# Altium schematic symbol library telecontrolli.SCHLIB: 3 symbols
Pins are listed as number, name and electrical type; pins without a type are passive.

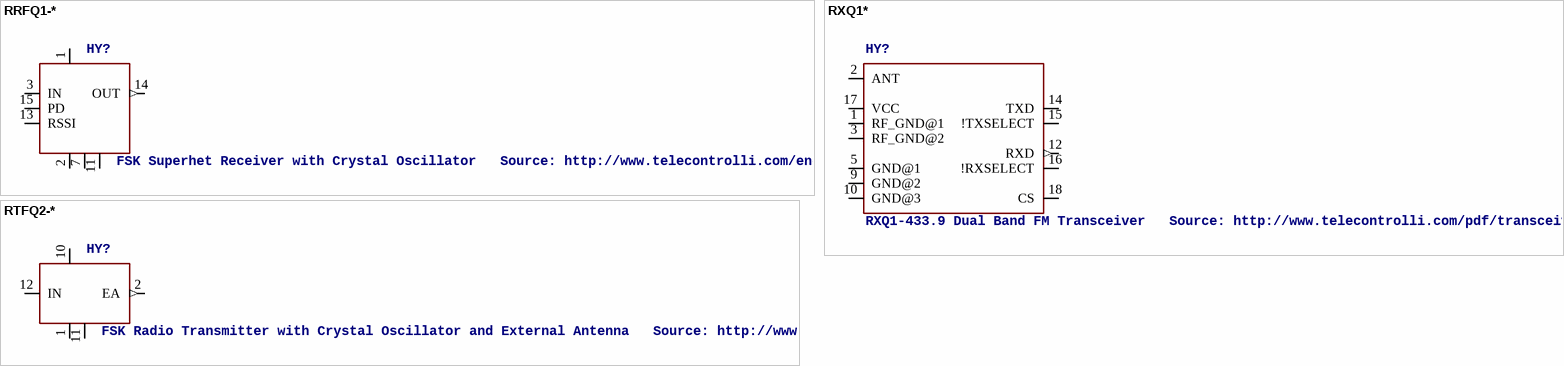
[diagram p0: symbols RRFQ1-* to RXQ1*]

## RRFQ1-*
designator HY?, comment FSK Superhet Receiver with Crystal Oscillator   Source: http://www.telecontrolli.com/eng/default-wproducts.html ... rrfq1.pdf
MPN: FM-RRFQ1-868; OC_FARNELL: 1201003; OC_NEWARK: 01M7854
footprint RRFQ1
pins: 1 +5V (power), 2 GND (power), 3 IN, 7 GND@1 (power), 11 GND@2 (power), 13 RSSI, 14 OUT (out), 15 PD

## RTFQ2-*
designator HY?, comment FSK Radio Transmitter with Crystal Oscillator and External Antenna   Source: http://www.telecontrolli.com/eng/default-wproducts.html ... rtfq2.pdf
MPN: FM-RTFQ2-433R; OC_FARNELL: unknown; OC_NEWARK: unknown; OC_FARNELL: 1200990; OC_NEWARK: 01M7858
footprint RTFQ2
pins: 1 GND (power), 2 EA (out), 10 +5V (power), 11 GND@1 (power), 12 IN

## RXQ1*
designator HY?, comment RXQ1-433.9 Dual Band FM Transceiver   Source: http://www.telecontrolli.com/pdf/transceivers/RXQ1.pdf
MPN: FM-RXQ1-433; OC_FARNELL: 1200988; OC_NEWARK: 96K9948
footprint RXQ1
pins: 1 RF_GND@1 (power), 2 ANT, 3 RF_GND@2 (power), 5 GND@1 (power), 9 GND@2 (power), 10 GND@3 (power), 12 RXD (out), 14 TXD, 15 !TXSELECT, 16 !RXSELECT, 17 VCC (power), 18 CS